# EAGLE library part C12832A1Z (library mbed-HDK-Optical)
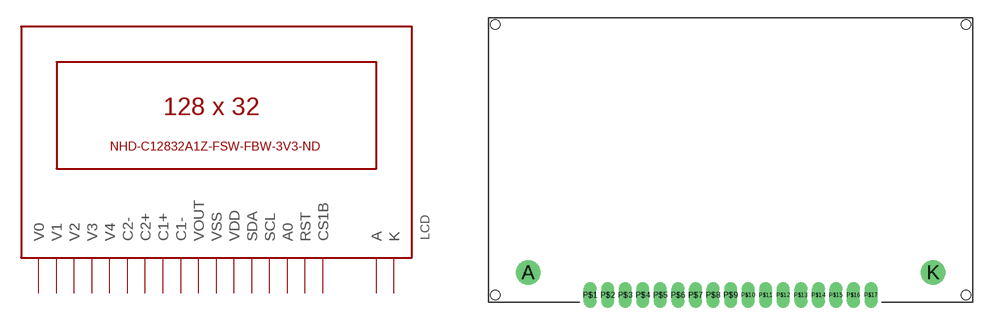
[diagram p0: symbol with the pads of C12832A1Z; footprint C12832A1Z]

Designator prefix LCD

## C12832A1Z  [C12832A1Z]
A  A
K  K
P$1  V0
P$2  V1
P$3  V2
P$4  V3
P$5  V4
P$6  C2-
P$7  C2+
P$8  C1+
P$9  C1-
P$10  VOUT
P$11  VSS
P$12  VDD
P$13  SDA
P$14  SCL
P$15  A0
P$16  RST
P$17  CS1B

## Footprint C12832A1Z (pad centres in mm)
drill 1.4: A 3.4,2.55; K 38,2.55
drill 0.6 long: P$1 8.7,0.6; P$2 10.2,0.6; P$3 11.7,0.6; P$4 13.2,0.6; P$5 14.7,0.6; P$6 16.2,0.6; P$7 17.7,0.6; P$8 19.2,0.6; P$9 20.7,0.6; P$10 22.2,0.6; P$11 23.7,0.6; P$12 25.2,0.6; P$13 26.7,0.6; P$14 28.2,0.6; P$15 29.7,0.6; P$16 31.2,0.6; P$17 32.7,0.6
hole 0.8 at 0.6,0.6
hole 0.8 at 40.8,0.6
hole 0.8 at 40.8,23.7
hole 0.8 at 0.6,23.7